# Altium footprint library PcbLib1.PcbLib: 4 footprints
Each footprint in its own frame and in the unit in brackets; x right, y up, seen from the top. Pads: shape width x height; smd on the part's side, far side on the other; paste and mask are expansions set on the pad; w line width, h text height; cw(c..) or ccw(c..) is an arc to the next point about the centre after c.
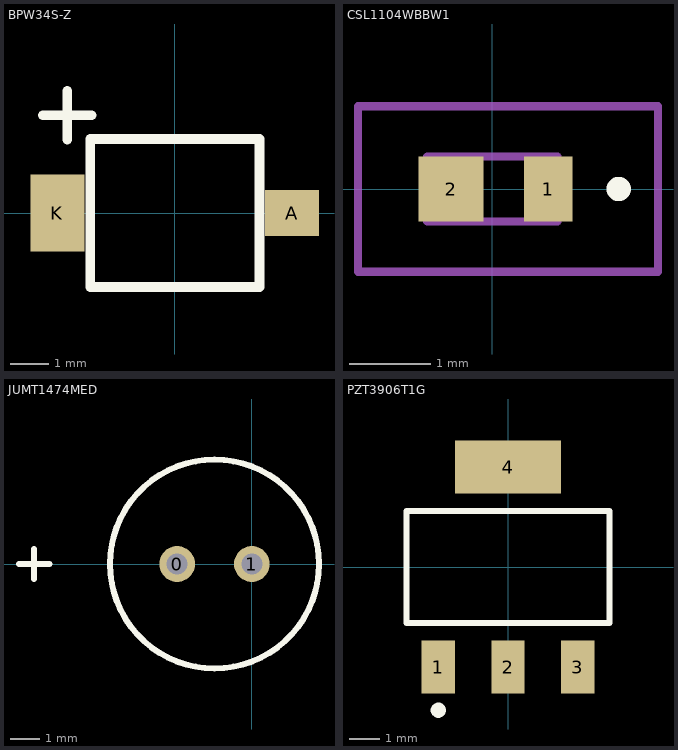
[diagram p0: the footprints below, top view; thin cyan lines are the x and y axes]

## BPW34S-Z [mm]
pads (2):
  rect 1.4x1.2 smd: A(3.05,0)
  rect 1.4x2 smd: K(-3.05,0)
Top Overlay:
  lines w0.254: -3.429,2.54 -2.159,2.54 ; -2.794,1.905 -2.794,3.175 ; -2.2,-1.925 2.2,-1.925 2.2,1.925 -2.2,1.925 -2.2,-1.925

## CSL1104WBBW1 [mm]
pads (2):
  rect 0.6x0.8 smd: 1(0.685,0)
  rect 0.8x0.8 smd: 2(-0.508,0)
Top Overlay:
  lines w0.2: 1.5,0 cw(c1.55,0) 1.6,0 ; 1.5,0 ccw(c1.55,0) 1.6,0 ; 1.5,0 ccw(c1.55,0) 1.6,0
Mechanical 13:
  lines w0.1: -0.8,-0.4 -0.8,0.4 0.8,0.4 0.8,-0.4 -0.8,-0.4
Mechanical 15:
  lines w0.1: -1.651,-1.016 2.032,-1.016 2.032,1.016 -1.651,1.016 -1.651,-1.016
3D body "CSL1104WBBW1.stp": height 0.75, standoff 0, extent -0.8,-0.4 0.8,0.4

## JUMT1474MED [mm]
pads (2):
  round 1.2 hole 0.7: 0(-2.5,0) 1(0,0)
Top Overlay:
  circle w0.2: c-1.25,0 r3.5
  lines w0.2: -7.798,0 -6.782,0 ; -7.29,-0.508 -7.29,0.508
3D body "JU-A_NCH.step": height 8.75, standoff -4.06, extent -4.423,-3.146 1.905,3.146

## PZT3906T1G [mm]
pads (4):
  rect 1.1x1.75 smd: 1(-2.3,-3.3) 2(0,-3.3) 3(2.3,-3.3)
  rect 3.5x1.75 smd: 4(0,3.3)
Top Overlay:
  circle w0.25: c-2.3,-4.725 r0.125
  lines w0.2: -3.35,-1.85 3.35,-1.85 3.35,1.85 -3.35,1.85 -3.35,-1.85
3D body "SOT-223-2.STEP": height 1.85, standoff -0.05, extent -3.35,-3.704 3.35,3.5